# EAGLE library part PBU6U (library switch-e-switch)
6PDT PUSHBUTTON SWITCH
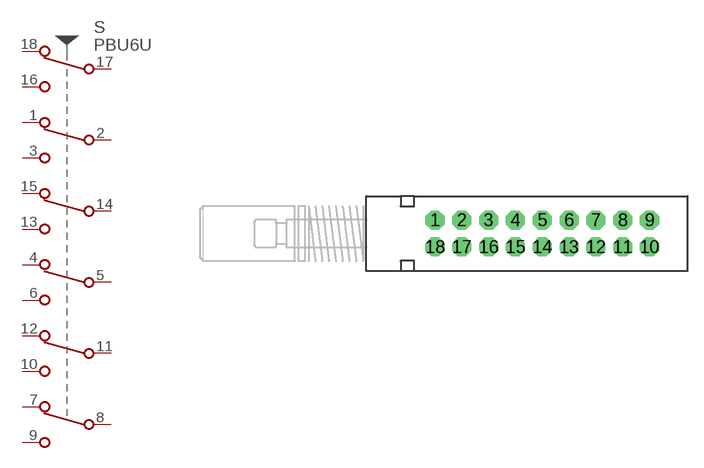
[diagram p10: symbol with the pads of PBH6U; footprint PBH6U]

Designator prefix S

## PBU6U  [PBH6U]
1  B-NC  pas
2  B-COM  pas
3  B-NO  pas
4  D-NC  pas
5  D-COM  pas
6  D-NO  pas
7  F-NC  pas
8  F-COM  pas
9  F-NO  pas
10  E-NO  pas
11  E-COM  pas
12  E-NC  pas
13  C-NO  pas
14  C-COM  pas
15  C-NC  pas
16  A-NO  pas
17  A-COM  pas
18  A-NC  pas

## Footprint PBH6U (pad centres in mm)
Pushbutton Switch PBH Series
drill 0.711 pad 1.778 octagon: 1 -2.5,1.25; 2 0,1.25; 3 2.5,1.25; 4 5,1.25; 5 7.5,1.25; 6 10,1.25; 7 12.5,1.25; 8 15,1.25; 9 17.5,1.25; 10 17.5,-1.25; 11 15,-1.25; 12 12.5,-1.25; 13 10,-1.25; 14 7.5,-1.25; 15 5,-1.25; 16 2.5,-1.25; 17 0,-1.25; 18 -2.5,-1.25